# Altium schematic symbol library CAP_SMD.Schlib: 1 symbol
Pins are listed as number, name and electrical type; pins without a type are passive.

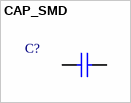
[diagram p0: symbol CAP_SMD]

## CAP_SMD
designator C?
pins: 1, 2